# EAGLE library part 2X3_HEADER (library quentin)
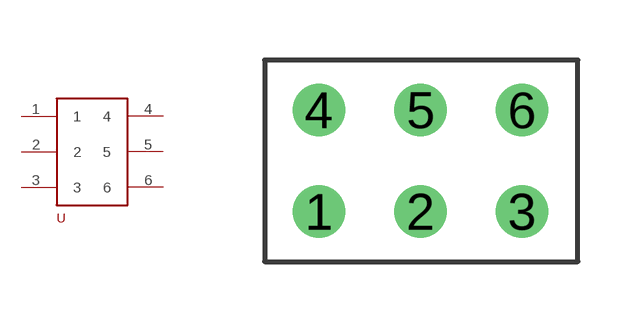
[diagram p24: symbol with the pads of 2X3_THROUGH_HOLE_.1'; footprint 2X3_THROUGH_HOLE_.1']

Designator prefix -

## 2X3_HEADER  [2X3_THROUGH_HOLE_.1']
1  1
2  2
3  3
4  4
5  5
6  6

## Footprint 2X3_THROUGH_HOLE_.1' (pad centres in mm)
drill 0.8: 1 0,0; 2 2.54,0; 3 5.08,0; 4 0,2.54; 5 2.54,2.54; 6 5.08,2.54